# EAGLE library part NC7SV157P6X (library Fairchild_By_element14_Batch_1)
2-Input Non-Inverting Multiplexer
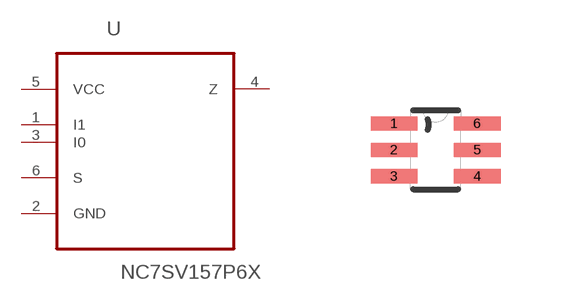
[diagram p348: symbol with the pads of SOT65P210X110-6N; footprint SOT65P210X110-6N]

Designator prefix U

## NC7SV157P6X (MPN: NC7SV157P6X; OC_FARNELL: 1467313; OC_NEWARK: 29H0705; PACKAGE: SC-70-6; SUPPLIER: FAIRCHILD SEMICONDUCTOR)  [SOT65P210X110-6N]
1  I1  in
2  GND  pas
3  I0  in
4  Z  out
5  VCC  pwr
6  S  in

## Footprint SOT65P210X110-6N (pad centres in mm)
smd 1.168 x 0.356: 1 -1.041,0.66; 2 -1.041,0; 3 -1.041,-0.66; 4 1.041,-0.66; 5 1.041,0; 6 1.041,0.66